# EAGLE library part TPS6521903RHBR (library TPS6521903RHBR)
Power Management Specialised - PMIC Integrated power management (PMIC) for Arm Cortex- A53 processors and FPGAs 32-VQFN -40 to 105 Source: Datasheet <https://www.ti.com/lit/ds/symlink/tps65219.pdf?ts=1707802117638&ref_url=https%3A%2F%2Fwww.ti.com%2Fproduct%2FTPS65219>
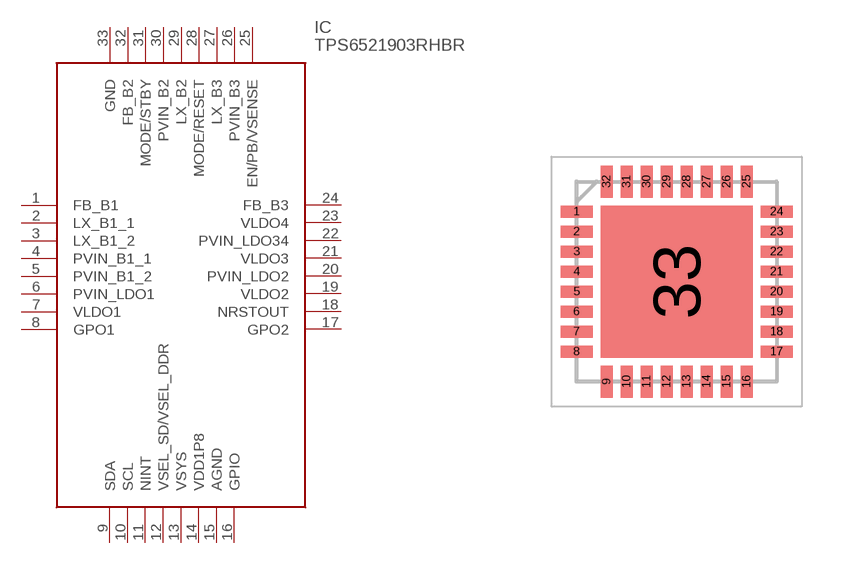
[diagram p0: symbol with the pads of QFN50P500X500X100-33N; footprint QFN50P500X500X100-33N]

Designator prefix IC

## TPS6521903RHBR (Arrow_Part_Number: TPS6521903RHBR; Arrow_Price-Stock: https://www.arrow.com/en/products/tps6521903rhbr/texas-instruments?region=nac; Description: Power Management Specialised - PMIC Integrated power management (PMIC) for Arm Cortex- A53 processors and FPGAs 32-VQFN -40 to 105; Height: 1mm; Manufacturer_Name: Texas Instruments; Manufacturer_Part_Number: TPS6521903RHBR; Mouser_Part_Number: 595-TPS6521903RHBR; Mouser_Price-Stock: https://www.mouser.co.uk/ProductDetail/Texas-Instruments/TPS6521903RHBR?qs=63Lh8XYXgjvRr0StD1bCRQ%3D%3D)  [QFN50P500X500X100-33N]
1  FB_B1
2  LX_B1_1
3  LX_B1_2
4  PVIN_B1_1
5  PVIN_B1_2
6  PVIN_LDO1
7  VLDO1
8  GPO1
9  SDA
10  SCL
11  NINT
12  VSEL_SD/VSEL_DDR
13  VSYS
14  VDD1P8
15  AGND
16  GPIO
17  GPO2
18  NRSTOUT
19  VLDO2
20  PVIN_LDO2
21  VLDO3
22  PVIN_LDO34
23  VLDO4
24  FB_B3
25  EN/PB/VSENSE
26  PVIN_B3
27  LX_B3
28  MODE/RESET
29  LX_B2
30  PVIN_B2
31  MODE/STBY
32  FB_B2
33  GND

## Footprint QFN50P500X500X100-33N (pad centres in mm)
RHB0032W
smd 0.8 x 0.3: 1 -2.5,1.75; 2 -2.5,1.25; 3 -2.5,0.75; 4 -2.5,0.25; 5 -2.5,-0.25; 6 -2.5,-0.75; 7 -2.5,-1.25; 8 -2.5,-1.75; 17 2.5,-1.75; 18 2.5,-1.25; 19 2.5,-0.75; 20 2.5,-0.25; 21 2.5,0.25; 22 2.5,0.75; 23 2.5,1.25; 24 2.5,1.75
smd 0.3 x 0.8: 9 -1.75,-2.5; 10 -1.25,-2.5; 11 -0.75,-2.5; 12 -0.25,-2.5; 13 0.25,-2.5; 14 0.75,-2.5; 15 1.25,-2.5; 16 1.75,-2.5; 25 1.75,2.5; 26 1.25,2.5; 27 0.75,2.5; 28 0.25,2.5; 29 -0.25,2.5; 30 -0.75,2.5; 31 -1.25,2.5; 32 -1.75,2.5
smd 3.8 x 3.8: 33 0,0